# Altium footprint library BLGA-144-MODULE.PcbLib: 1 footprints
Each footprint in its own frame and in the unit in brackets; x right, y up, seen from the top. Pads: shape width x height; smd on the part's side, far side on the other; paste and mask are expansions set on the pad; w line width, h text height; cw(c..) or ccw(c..) is an arc to the next point about the centre after c.
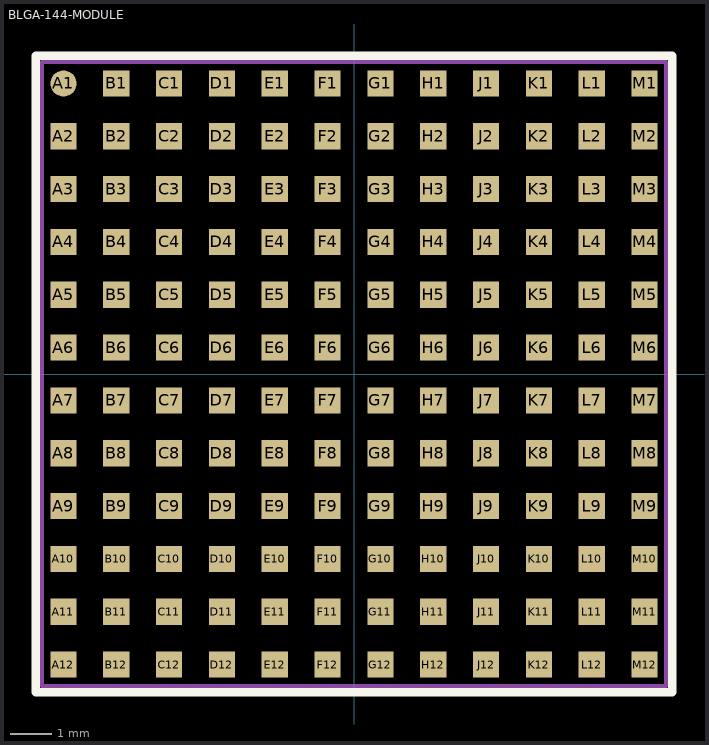
[diagram p0: the footprint, top view; thin cyan lines are the x and y axes]

## BLGA-144-MODULE [mm]
height 0.9
pads (144):
  round 0.63 smd: A1(-6.985,6.985)
  rect 0.63x0.63 smd: A2(-6.985,5.715) A3(-6.985,4.445) A4(-6.985,3.175) A5(-6.985,1.905) A6(-6.985,0.635) A7(-6.985,-0.635) A8(-6.985,-1.905) A9(-6.985,-3.175) A10(-6.985,-4.445) A11(-6.985,-5.715) A12(-6.985,-6.985) B1(-5.715,6.985) B2(-5.715,5.715) B3(-5.715,4.445) B4(-5.715,3.175) B5(-5.715,1.905) B6(-5.715,0.635) B7(-5.715,-0.635) B8(-5.715,-1.905) B9(-5.715,-3.175) B10(-5.715,-4.445) B11(-5.715,-5.715) B12(-5.715,-6.985) C1(-4.445,6.985) C2(-4.445,5.715) C3(-4.445,4.445) C4(-4.445,3.175) C5(-4.445,1.905) C6(-4.445,0.635) C7(-4.445,-0.635) C8(-4.445,-1.905) C9(-4.445,-3.175) C10(-4.445,-4.445) C11(-4.445,-5.715) C12(-4.445,-6.985) D1(-3.175,6.985) D2(-3.175,5.715) D3(-3.175,4.445) D4(-3.175,3.175) D5(-3.175,1.905) D6(-3.175,0.635) D7(-3.175,-0.635) D8(-3.175,-1.905) D9(-3.175,-3.175) D10(-3.175,-4.445) D11(-3.175,-5.715) D12(-3.175,-6.985) E1(-1.905,6.985) E2(-1.905,5.715) E3(-1.905,4.445) E4(-1.905,3.175) E5(-1.905,1.905) E6(-1.905,0.635) E7(-1.905,-0.635) E8(-1.905,-1.905) E9(-1.905,-3.175) E10(-1.905,-4.445) E11(-1.905,-5.715) E12(-1.905,-6.985) F1(-0.635,6.985) F2(-0.635,5.715) F3(-0.635,4.445) F4(-0.635,3.175) F5(-0.635,1.905) F6(-0.635,0.635) F7(-0.635,-0.635) F8(-0.635,-1.905) F9(-0.635,-3.175) F10(-0.635,-4.445) F11(-0.635,-5.715) F12(-0.635,-6.985) G1(0.635,6.985) G2(0.635,5.715) G3(0.635,4.445) G4(0.635,3.175) G5(0.635,1.905) G6(0.635,0.635) G7(0.635,-0.635) G8(0.635,-1.905) G9(0.635,-3.175) G10(0.635,-4.445) G11(0.635,-5.715) G12(0.635,-6.985) H1(1.905,6.985) H2(1.905,5.715) H3(1.905,4.445) H4(1.905,3.175) H5(1.905,1.905) H6(1.905,0.635) H7(1.905,-0.635) H8(1.905,-1.905) H9(1.905,-3.175) H10(1.905,-4.445) H11(1.905,-5.715) H12(1.905,-6.985) J1(3.175,6.985) J2(3.175,5.715) J3(3.175,4.445) J4(3.175,3.175) J5(3.175,1.905) J6(3.175,0.635) J7(3.175,-0.635) J8(3.175,-1.905) J9(3.175,-3.175) J10(3.175,-4.445) J11(3.175,-5.715) J12(3.175,-6.985) K1(4.445,6.985) K2(4.445,5.715) K3(4.445,4.445) K4(4.445,3.175) K5(4.445,1.905) K6(4.445,0.635) K7(4.445,-0.635) K8(4.445,-1.905) K9(4.445,-3.175) K10(4.445,-4.445) K11(4.445,-5.715) K12(4.445,-6.985) L1(5.715,6.985) L2(5.715,5.715) L3(5.715,4.445) L4(5.715,3.175) L5(5.715,1.905) L6(5.715,0.635) L7(5.715,-0.635) L8(5.715,-1.905) L9(5.715,-3.175) L10(5.715,-4.445) L11(5.715,-5.715) L12(5.715,-6.985) M1(6.985,6.985) M2(6.985,5.715) M3(6.985,4.445) M4(6.985,3.175) M5(6.985,1.905) M6(6.985,0.635) M7(6.985,-0.635) M8(6.985,-1.905) M9(6.985,-3.175) M10(6.985,-4.445) M11(6.985,-5.715) M12(6.985,-6.985)
Top Overlay:
  lines w0.2: -7.65,-7.65 7.65,-7.65 7.65,7.65 -7.65,7.65 -7.65,-7.65
Top Assembly:
  lines w0.1: -7.5,-7.5 7.5,-7.5 7.5,7.5 -7.5,7.5 -7.5,-7.5
  text "'.Designator'" at -1,-0.3 h0.7
3D body "LTM4616EV#PBF.stp": height 3.02, standoff 0, extent -7.5,-7.5 7.5,7.5